# Altium footprint library PR01000102003JR500.PcbLib: 10 footprints
Each footprint in its own frame and in the unit in brackets; x right, y up, seen from the top. Pads: shape width x height; smd on the part's side, far side on the other; paste and mask are expansions set on the pad; w line width, h text height; cw(c..) or ccw(c..) is an arc to the next point about the centre after c.
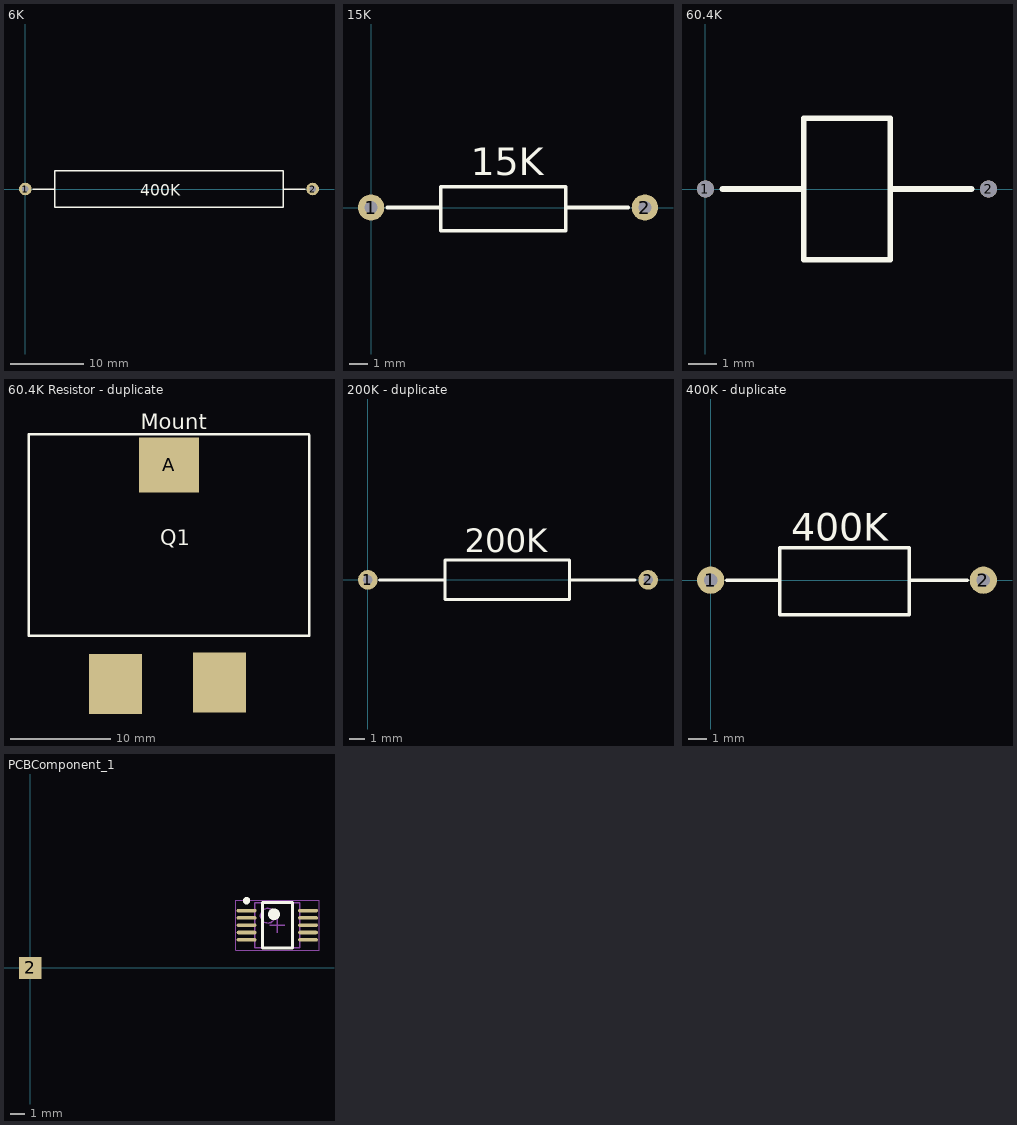
[diagram p0: the footprints below, top view; thin cyan lines are the x and y axes]

## 6K [mm]
pads (2):
  round 1.71 hole 0.855: 1(0,0) 2(39,0)
Top Overlay:
  lines w0.2: 1.016,0 4.03,0 ; 34.97,0 37.973,0 ; 4.03,0 4.03,-2.5 34.97,-2.5 34.97,2.5 4.03,2.5 4.03,0
  text "400K" at 15.621,-0.889 h1.52

## 15K [mm]
pads (2):
  round 1.44 hole 0.72: 1(0,0) 2(15,0)
Top Overlay:
  lines w0.2: 0.889,0 3.683,0 ; 10.795,0 14.097,0 ; 3.81,-1.27 3.81,1.143 4.064,1.143 4.953,1.143 5.397,1.143 8.826,1.143 10.668,1.143 10.668,-1.27 3.81,-1.27
  text "15K" at 5.461,1.778 h1.52

## 60.4K [mm]
pads (2):
  round 0.6 hole 0.6: 1(0,0) 2(10,0)
Top Overlay:
  lines w0.2: 0.6,0 3.475,0 ; 6.525,0 9.4,0 ; 3.475,0 3.475,2.5 6.525,2.5 6.525,-2.5 3.475,-2.5 3.475,0

## 60.4k Resistor [mm]

## 60.4K Resistor - duplicate [mm]
pads (3):
  rect 6x5.5 smd: A(69.723,49.657)
  rect 5.3x6 smd: ""(64.389,27.813) ""(74.77,27.94)
Top Overlay:
  lines w0.254: 55.753,52.639 55.753,32.639 83.653,32.639 ; 55.753,52.705 62.728,52.705 ; 83.653,52.705 76.678,52.705 62.728,52.705 ; 83.693,32.639 83.693,52.639 ; 62.728,52.705 62.728,52.705
  text "Q1" at 68.834,41.656 h1.52
  text "Mount" at 66.929,53.213 h1.52

## 200K [mm]

## 200K - duplicate [mm]
pads (2):
  round 1.26 hole 0.63: 1(0,0) 2(18,0)
Top Overlay:
  lines w0.2: 0.762,0 4.826,0 ; 12.954,0 17.145,0 ; 4.953,-1.27 12.954,-1.27 12.954,1.27 4.953,1.27 4.953,-1.27
  text "200K" at 6.223,1.778 h1.52

## 400K [mm]

## 400K - duplicate [mm]
pads (2):
  round 1.5 hole 0.75: 1(0,0) 2(15,0)
Top Overlay:
  lines w0.2: 0.889,0 3.721,0 ; 3.798,-1.905 3.798,1.775 ; 3.81,-1.905 10.922,-1.905 ; 3.81,1.778 10.922,1.778 10.922,-1.902 ; 10.922,0 14.097,0
  text "400K" at 4.445,2.159 h1.52

## PCBComponent_1 [mm]
pads (11):
  oval 1.35x0.25 smd: 1(14.791,3.921) 2(14.791,3.421) 3(14.791,2.921) 4(14.791,2.421) 5(14.791,1.921) 6(18.991,1.921) 7(18.991,2.421) 8(18.991,2.921) 9(18.991,3.421) 10(18.991,3.921)
  rect 1.524x1.524 smd: 2(0,0)
Top Overlay:
  circle w0.25: c14.791,4.596 r0.125
  circle w0.4: c16.666,3.671 r0.2
  lines w0.2: 15.866,1.371 15.866,4.471 17.916,4.471 17.916,1.371 15.866,1.371
Mechanical 13:
  circle w0.1: c16.241,3.571 r0.5
  lines w0.1: 15.341,1.371 15.341,4.471 18.441,4.471 18.441,1.371 15.341,1.371
Mechanical 15:
  lines w0.05: 14.041,1.221 14.041,4.621 19.741,4.621 19.741,1.221 14.041,1.221
  lines w0.1: 16.391,2.921 17.391,2.921 ; 16.891,2.421 16.891,3.421
3D body: height 1.1, standoff 0.05, extent 15.341,1.371 18.441,4.471